# Altium schematic symbol library G5V-2-H1-5V.Schlib: 1 symbol
Pins are listed as number, name and electrical type; pins without a type are passive.

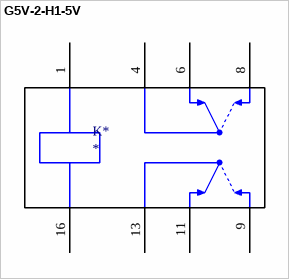
[diagram p0: symbol G5V-2-H1-5V]

## G5V-2-H1-5V
designator K*
General Purpose Non Latching 5VDC DPDT 1A Through Hole Relays RoHS; ComponentLink1Description: LCSC - Omron Electronics G5V-2-H1-5V; ComponentLink1URL: https://lcsc.com/product-detail/Relays_OMRON_G5V-2-H1-5V_G5V-2-H1-5V_C28066.html; LCSC Part #: C28066
footprint G5V-2-H1-5V
pins: 1, 4, 6, 8, 9, 11, 13, 16